# Altium schematic symbol library KAAI3020_TestBoard_R00.SCHLIB: 59 symbols
Pins are listed as number, name and electrical type; pins without a type are passive.

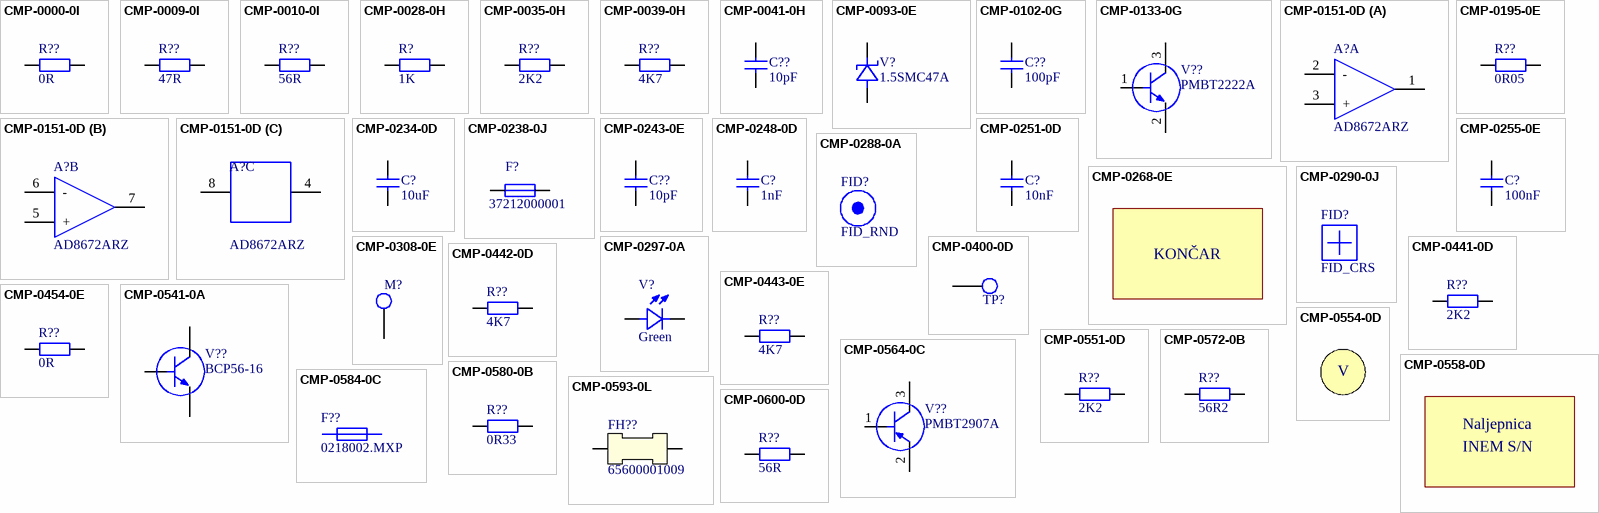
[diagram p0: symbols CMP-0000-0I to CMP-0600-0D]

## CMP-0000-0I
designator R??, comment value 0R  (hidden comment: RES_0R_0805_1%)
Resistor, Thick Film, 0R, 1%, 0.125W, TK100, Vishay; ManufacturerPartNumber: CRCW08050000Z; Manufacturer Part Number: CRCW08050000Z0EA; ValueNumeric: 0; Manufacturer: Vishay; Tolerance: 1%; DatasheetVersion: Revision: 04-Jun-12; HelpURL: \\srv-perun\Repos\Comp\090_COTS\Components\Datasheets\Resistors\Vishay\dcrcwe3.pdf; MountingType: SMD; PackageType: 0805; Height: 0.5mm; OperatingTemp: - 55C to +155C; Power: 0.125W; ROHS: Yes; PartStatus: Active
footprint RESC2112X05M (Resistor, 0805 (2012 metric), 2.05x1.25x0.5mm, Vishay)
pins: 1, 2

## CMP-0009-0I
designator R??, comment value 47R  (hidden comment: RES_47R_0805_1%)
Resistor, Thick Film, 47R, 1%, 0.125W, TK100, Vishay; ManufacturerPartNumber: CRCW080547R0FKEA; ValueNumeric: 47; MountingType: SMD; HelpURL: \\srv-perun\Repos\Comp\090_COTS\Components\Datasheets\Resistors\Vishay\dcrcwe3.pdf; Height: 0.5mm; PartStatus: Active; Power: 0.125W; OperatingTemp: - 55C to +155C; DatasheetVersion: Revision: 04-Jun-12; Tolerance: 1%; PackageType: 0805; ROHS: Yes; Manufacturer: Vishay; Manufacturer Part Number: CRCW080547R0FKEA
footprint RESC2112X05M (Resistor, 0805 (2012 metric), 2.05x1.25x0.5mm, Vishay)
pins: 1, 2

## CMP-0010-0I
designator R??, comment value 56R  (hidden comment: RES_56R_0805_1%)
Resistor, Thick Film, 56R, 1%, 0.125W, TK100, Vishay; ManufacturerPartNumber: CRCW080556R0FKEA; ValueNumeric: 56; PackageType: 0805; Height: 0.5mm; ROHS: Yes; Manufacturer: Vishay; Power: 0.125W; Tolerance: 1%; HelpURL: \\srv-perun\Repos\Comp\090_COTS\Components\Datasheets\Resistors\Vishay\dcrcwe3.pdf; MountingType: SMD; OperatingTemp: - 55C to +155C; DatasheetVersion: Revision: 04-Jun-12; PartStatus: Active; Manufacturer Part Number: CRCW080556R0FKEA
footprint RESC2112X05M (Resistor, 0805 (2012 metric), 2.05x1.25x0.5mm, Vishay)
pins: 1, 2

## CMP-0028-0H
designator R?, comment value 1K  (hidden comment: RES_1K_0805_1%)
Resistor, Thick Film, 1K, 1%, 0.125W, TK100, Vishay; ManufacturerPartNumber: CRCW08051K00FKEA; ValueNumeric: 1000; ROHS: Yes; Manufacturer: Vishay; PackageType: 0805; Tolerance: 1%; DatasheetVersion: Revision: 04-Jun-12; MountingType: SMD; Power: 0.125W; Height: 0.5mm; PartStatus: Active; HelpURL: \\srv-perun\Repos\Comp\090_COTS\Components\Datasheets\Resistors\Vishay\dcrcwe3.pdf; OperatingTemp: - 55C to +155C; Manufacturer Part Number: CRCW08051K00FKEA
footprint RESC2112X05M (Resistor, 0805 (2012 metric), 2.05x1.25x0.5mm, Vishay)
pins: 1, 2

## CMP-0035-0H
designator R??, comment value 2K2  (hidden comment: RES_2K2_0805_1%)
Resistor, Thick Film, 2K2, 1%, 0.125W, TK100, Vishay; ManufacturerPartNumber: CRCW08052K20FKEA; ValueNumeric: 2200; DatasheetVersion: Revision: 04-Jun-12; OperatingTemp: - 55C to +155C; Manufacturer: Vishay; ROHS: Yes; HelpURL: \\srv-perun\Repos\Comp\090_COTS\Components\Datasheets\Resistors\Vishay\dcrcwe3.pdf; PackageType: 0805; MountingType: SMD; PartStatus: Active; Power: 0.125W; Tolerance: 1%; Height: 0.5mm; Manufacturer Part Number: CRCW08052K20FKEA
footprint RESC2112X05M (Resistor, 0805 (2012 metric), 2.05x1.25x0.5mm, Vishay)
pins: 1, 2

## CMP-0039-0H
designator R??, comment value 4K7  (hidden comment: RES_4K7_0805_1%)
Resistor, Thick Film, 4K7, 1%, 0.125W, TK100, Vishay; ManufacturerPartNumber: CRCW08054K70FKEA; ValueNumeric: 4700; Tolerance: 1%; Power: 0.125W; Height: 0.5mm; MountingType: SMD; HelpURL: \\srv-perun\Repos\Comp\090_COTS\Components\Datasheets\Resistors\Vishay\dcrcwe3.pdf; Manufacturer: Vishay; DatasheetVersion: Revision: 04-Jun-12; OperatingTemp: - 55C to +155C; ROHS: Yes; PartStatus: Active; PackageType: 0805; Manufacturer Part Number: CRCW08054K70FKEA
footprint RESC2112X05M (Resistor, 0805 (2012 metric), 2.05x1.25x0.5mm, Vishay)
pins: 1, 2

## CMP-0041-0H
designator C??, comment value 10pF  (hidden comment: CAP_10pF_0805_5%)
Capacitor, Ceramic, Multilayer, C0G (NP0), 10pF, 5%, 50V, AVX; ManufacturerPartNumber: 08055A100JAT; ValueNumeric: 10; PartStatus: Active; PackageType: 0805; Manufacturer: AVX; OperatingTemp: -55°C to 125°C; ROHS: Yes; HelpURL: \\srv-perun\Repos\Comp\090_COTS\Components\Datasheets\Capacitors\AVX\C0GNP0-Dielectric.pdf; MountingType: SMD; Tolerance: 5%; Voltage: 50V; Manufacturer Part Number: 08055A100JAT; Component Type: Capacitor
footprint CAPC2012X09M (Capacitor, 0805 (2012 metric), 2.0x1.25x0.9mm, AVX)
pins: 1, 2

## CMP-0093-0E
designator V?, comment 1.5SMC47A
TVS Diode, Unidirectional, 1500W, 47V,  TransZorb® 1.5SMC Series; Manufacturer: Vishay; DatasheetVersion: Revision: 20-Dec-13; MountingType: SMD; Power: 1500W; Value: 1.5SMC47A; OperatingTemp: -65 to 150; PackageType: DO-214AB; ManufacturerPartNumber: 1.5SMC47A; HelpURL: \\srv-perun\Repos\Comp\090_COTS\Components\Datasheets\Semiconductors\Vishay\15smcseries.pdf; PartStatus: Active; ValueNumeric: 1.5SMC47A; Voltage: 47V; Manufacturer Part Number: 1.5SMC47A
footprint DIOM6959X26M (SMCJ, DO-214AB, Vishay)
pins: 1, 2

## CMP-0102-0G
designator C??, comment value 100pF  (hidden comment: CAP_100pF_0805_5%)
Capacitor, Ceramic, Multilayer, C0G (NP0), 100pF, 5%, 50V, AVX; ManufacturerPartNumber: 08055A101JAT; ValueNumeric: 100; PartStatus: Active; ROHS: Yes; MountingType: SMD; Manufacturer: AVX; HelpURL: \\srv-perun\Repos\Comp\090_COTS\Components\Datasheets\Capacitors\AVX\C0GNP0-Dielectric.pdf; PackageType: 0805; OperatingTemp: -55°C to 125°C; Voltage: 50V; Tolerance: 5%; Manufacturer Part Number: 08055A101JAT
footprint CAPC2012X09M (Capacitor, 0805 (2012 metric), 2.0x1.25x0.9mm, AVX)
pins: 1, 2

## CMP-0133-0G
designator V??, comment PMBT2222A
Transitor Bipolar, NPN, 40V, 0.6A, 250mW; Manufacturer: NXP; MTBF: 1.33x10E9; MountingType: SMD; HelpURL: \\srv-perun\Repos\Comp\090_COTS\Components\Datasheets\Semiconductors\NXP\PMBT2222_PMBT2222A.pdf; PackageType: SOT-23; PartStatus: Active; ManufacturerPartNumber: PMBT2222A; Voltage: 40V; DatasheetVersion: Rev. 6 - 12 November 2010; ValueNumeric: PMBT2222A; Value: PMBT2222A; ROHS: Yes; OperatingTemp: -65°C to +150°C; Power: 250mW; Manufacturer Part Number: PMBT2222A
footprint SOT95P230X110-3M (SOT23 NXP, TO-236AB)
pins: 1 B, 2 E, 3 C

## CMP-0151-0D
designator A?, comment AD8672ARZ
Operational Amplifier, Dual, Precision Low Noise, Low Input Bias Current, 10MHz, 4V/µs, ±5V to ±15V; Manufacturer: Analog Devices; OperatingTemp: -40 to 125; HelpURL: \\srv-perun\Repos\Comp\090_COTS\Components\Datasheets\Analog_integrated\Analog_Devices\AD8671_8672_8674.pdf; MountingType: SMD; ManufacturerPartNumber: AD8672ARZ; PackageType: SOIC-8; DatasheetVersion: Rev. F; PartStatus: Active; Value: AD8672ARZ; ValueNumeric: AD8672ARZ; Manufacturer Part Number: AD8672ARZ
footprint SOIC127P600X175-8M (SOIC-8, Texas Instruments)
part A pins: 1 Out1, 2 -, 3 +
part B pins: 5 +, 6 -, 7 Out2
part C pins: 4 (power), 8 (power)

## CMP-0195-0E
designator R??, comment value 0R05  (hidden comment: RES_0R05_2512_1%)
Resistor, Metal Strip, 0R05, 1%, 1W, TK75, Vishay; ManufacturerPartNumber: WSLT2512R0500FEA; ValueNumeric: 0.05; Voltage: 500V; PackageType: 2512 (6332 metric); Power: 1W; OperatingTemp: -65C to +275C; Tolerance: 1%; ROHS: Yes; Manufacturer: Vishay; PartStatus: Active; MountingType: SMD; HelpURL: \\srv-perun\Repos\Comp\090_COTS\Components\Datasheets\Resistors\Vishay\wslt2512.pdf; Height: 0.9mm; DatasheetVersion: Revision: 02-Oct-12
footprint RESC6432X09M (Resistor, WSLT2512 (6332 metric), 6.3x3.2x0.9mm, Vishay)
pins: 1, 2

## CMP-0234-0D
designator C?, comment value 10uF  (hidden comment: CAP_10uF_1210_10%)
Capacitor, Ceramic, Multilayer, X7R, 10uF, 50V, 10%, AVX; ManufacturerPartNumber: 12105C106KAT2A; ValueNumeric: 10000000; DatasheetVersion: REV 02; Height: 2.79mm; HelpURL: \\srv-perun\Repos\Comp\090_COTS\Components\Datasheets\Capacitors\AVX\X7RDielectric.pdf; Manufacturer: AVX; MountingType: SMD; OperatingTemp: -55ºC to +125ºC; PackageType: 1210; PartStatus: Active; ROHS: Yes; Tolerance: 10%; Voltage: 50V; Manufacturer Part Number: 12105C106KAT2A
footprint CAPC3225X28M (Capacitor, 1210 (3225 metric), 3.2x2.5x2.8mm, AVX)
pins: 1, 2

## CMP-0238-0J
designator F?, comment value 37212000001  (hidden comment: F_2A_250V)
Fuse, 2A, 250V, 0.6W, TR5 Time Lag, 372 series; Manufacturer: Littelfuse; DatasheetVersion: Revised: 01/06/16; Height: 8mm; HelpURL: \\srv-perun\Repos\Comp\090_COTS\Components\Datasheets\Resistors\Littelfuse\Littelfuse_Fuse_372_Datasheet.pdf; MountingType: THT; OperatingTemp: -40ºC to +85ºC; PartStatus: Active; Power: 0.6W; ROHS: Yes; ValueNumeric: 37212000001; Voltage: 250V; ManufacturerPartNumber: 37212000001; Manufacturer Part Number: 37212000001
footprint FUSE_3721200001 (Radial Lead Fuse, 372 series, Littelfuse)
pins: 1, 2

## CMP-0243-0E
designator C??, comment value 10pF  (hidden comment: CAP_10pF_0603_5%)
Capacitor, Ceramic, Multilayer, C0G (N0P), 10pF, 5%, 50V, COG (NPO), Kemet; ManufacturerPartNumber: C0603C100J5GACTU; ValueNumeric: 10; Manufacturer: Kemet; PackageType: 1608 metric (0603 EIA); DatasheetVersion: 3/30/2016; Tolerance: 5%; OperatingTemp: -55°C to 125°C; MountingType: SMD; HelpURL: \\srv-perun\Repos\Comp\090_COTS\Components\Datasheets\Capacitors\Kemet\KEM_C1003_C0G_SMD.pdf; Voltage: 50V; ROHS: Yes; PartStatus: Active; Manufacturer Part Number: C0603C100J5GACTU
footprint CAPC1608X09M (Capacitor, 0603 (1608 metric), 1.6x0.8x0.9mm, Kemet)
pins: 1, 2

## CMP-0248-0D
designator C?, comment value 1nF  (hidden comment: CAP_1nF_0603_10%)
Capacitor, Ceramic, Multilayer, X7R, 1nF, 10%, 50V, Kemet; ManufacturerPartNumber: C0603C102K5RACTU; ValueNumeric: 1000; MountingType: SMD; ROHS: Yes; Tolerance: 10%; Voltage: 50V; HelpURL: \\srv-perun\Repos\Comp\090_COTS\Components\Datasheets\Capacitors\Kemet\KEM_C1002_X7R_SMD.pdf; PackageType: 1608 metric (0603 EIA); PartStatus: Active; OperatingTemp: -55°C to 125°C; Manufacturer: Kemet; DatasheetVersion: 2/29/2016; Manufacturer Part Number: C0603C102K5RACTU
footprint CAPC1608X09M (Capacitor, 0603 (1608 metric), 1.6x0.8x0.9mm, Kemet)
pins: 1, 2

## CMP-0251-0D
designator C?, comment value 10nF  (hidden comment: CAP_10nF_0603_10%)
Capacitor, Ceramic, Multilayer, X7R, 10nF, 10%, 50V, Kemet; ManufacturerPartNumber: C0603C103K5RACTU; ValueNumeric: 10000; HelpURL: \\srv-perun\Repos\Comp\090_COTS\Components\Datasheets\Capacitors\Kemet\KEM_C1002_X7R_SMD.pdf; MountingType: SMD; OperatingTemp: -55°C to 125°C; Tolerance: 10%; PackageType: 1608 metric (0603 EIA); ROHS: Yes; DatasheetVersion: 2/29/2016; Voltage: 50V; Manufacturer: Kemet; PartStatus: Active; Manufacturer Part Number: C0603C103K5RACTU
footprint CAPC1608X09M (Capacitor, 0603 (1608 metric), 1.6x0.8x0.9mm, Kemet)
pins: 1, 2

## CMP-0255-0E
designator C?, comment value 100nF  (hidden comment: CAP_100nF_0603_10%)
Capacitor, Ceramic, Multilayer, X7R, 100nF, 10%, 50V, Yageo; ManufacturerPartNumber: CC0603KRX7R9BB104; ValueNumeric: 100000; DatasheetVersion: December 30, 2015 V.13; Manufacturer: Yageo; MountingType: SMD; OperatingTemp: -55°C to 125°C; PackageType: 1608 metric (0603 EIA); PartStatus: Active; ROHS: Yes; Tolerance: 10%; Voltage: 50V; HelpURL: \\srv-perun\Repos\Comp\090_COTS\Components\Datasheets\Capacitors\Yageo\UPY-GPHC_X7R_6.3V-to-50V_13.pdf; Manufacturer Part Number: CC0603KRX7R9BB104; Component Type: Capacitor
footprint CAPC1608X09M (Capacitor, 0603 (1608 metric), 1.6x0.8x0.9mm, Yageo)
pins: 1, 2

## CMP-0268-0E
designator Logo?, comment KONČAR  (value not drawn)  (no BOM)
PCB logo; OperatingTemp: Active; PartStatus: Active; Value: logo; ValueNumeric: KONČAR; Manufacturer: KONČAR; ManufacturerPartNumber: KONČAR; Component Type: Mechanical Parts
footprint KONČAR (PCB logo)

## CMP-0288-0A
designator FID?, comment FID_RND  (no BOM)
Fiducial, Round, D=4mm (inner D=1mm); Manufacturer: KONČAR; ManufacturerPartNumber: FID_RND; MountingType: SMD; PartStatus: Active; Value: FID_RND; ValueNumeric: FID_RND; Component Type: Mechanical Parts
footprint FID_RND (Fiducial, Round, D=4mm (inner D=1mm))

## CMP-0290-0J
designator FID?, comment FID_CRS  (no BOM)
Fiducial, Cross, W=4mm, H=4mm; Manufacturer: KONČAR; ManufacturerPartNumber: FID_CRS; MountingType: SMD; PartStatus: Active; ValueNumeric: FID_CRS; Component Type: Mechanical Parts; Value: FID_CRS
footprint FID_CRS (Fiducial, Cross, W=4mm, H=4mm)

## CMP-0297-0A
designator V?, comment value Green  (hidden comment: LED_0805_Green)
LED, green, 20mA, 570nm; Manufacturer: Kingbright; ManufacturerPartNumber: KP-2012MGC; DatasheetVersion: REV NO: V.16; HelpURL: \\srv-perun\Repos\Comp\090_COTS\Components\Datasheets\Optoelectronic\Kingbright\1684561.pdf; MountingType: SMD; OperatingTemp: -40 to 85; PackageType: 2012 (0805 EIA); PartStatus: Active; ValueNumeric: Green; Manufacturer Part Number: KP-2012MGC
footprint LEDC2013X11M-green (LED, green,  2012 metric (0805 EIA))
pins: 1, 2

## CMP-0308-0E
designator M?, comment 101506.28 BZ  (value not drawn)
Solder lug for PCB, Closed, 2.8x7.5x0.6mm; Manufacturer: Vogt Ag; ROHS: Yes; Value: 2.8x7.5x0.6mm; ValueNumeric: 2.8x7.5x0.6mm; Height: 4mm; HelpURL: http://goo.gl/hPcdM9; ManufacturerPartNumber: 101506.28 BZ; MountingType: THT; PartStatus: Active; Manufacturer: Vogt AG; Manufacturer Part Number: 101506.28 BZ; Component Type: Mechanical Parts
footprint TPCW320D140H190P (Test Point Pad, Round, 3.2x1.9mm, Hole Diameter 1.4mm)
pins: 1

## CMP-0400-0D
designator TP?, comment TP1  (value not drawn)  (no BOM)
Test pad, round, 1mm; Manufacturer: Končar; ManufacturerPartNumber: Test_pad_1mm; MountingType: SMD; PartStatus: Active; Value: TP1; ValueNumeric: TP1; ClassName: CH1
footprint Test pad 1mm
pins: 1

## CMP-0441-0D
designator R??, comment value 2K2  (hidden comment: RES_2K2_2512_1%)
Resistor, Thick Film, 2K2, 1%, 1W, TK100, Vishay; ManufacturerPartNumber: CRCW25122K20FKEG; Voltage: 500V; ValueNumeric: 2200; MountingType: SMD; Power: 1W; Manufacturer: Vishay; OperatingTemp: -55C to +155C; Height: 0.7mm; Tolerance: 1%; PartStatus: Active; HelpURL: \\srv-perun\Repos\Comp\090_COTS\Components\Datasheets\Resistors\Vishay\dcrcwe3.pdf; PackageType: 2512 (6332 metric); DatasheetVersion: Revision: 04-Jun-12; ROHS: Yes; Manufacturer Part Number: CRCW25122K20FKEG
footprint RESC6331X07M (Resistor, 2512 (6332 metric), 6.3x3.2x0.7mm, Vishay)
pins: 1, 2

## CMP-0442-0D
designator R??, comment value 4K7  (hidden comment: RES_4K7_2512_1%)
Resistor, Thick Film, 4K7, 1%, 1W, TK100, Vishay; ManufacturerPartNumber: CRCW25124K70FKEG; Voltage: 500V; ValueNumeric: 4700; Power: 1W; HelpURL: \\srv-perun\Repos\Comp\090_COTS\Components\Datasheets\Resistors\Vishay\dcrcwe3.pdf; DatasheetVersion: Revision: 04-Jun-12; Tolerance: 1%; MountingType: SMD; Height: 0.7mm; Manufacturer: Vishay; ROHS: Yes; PackageType: 2512 (6332 metric); PartStatus: Active; OperatingTemp: -55C to +155C; Manufacturer Part Number: CRCW25124K70FKEG
footprint RESC6331X07M (Resistor, 2512 (6332 metric), 6.3x3.2x0.7mm, Vishay)
pins: 1, 2

## CMP-0443-0E
designator R??, comment value 4K7  (hidden comment: RES_4K7_1206_1%)
Resistor, Thick Film, 4K7, 1%, 0.25W, TK100, Vishay; ManufacturerPartNumber: CRCW12064K70FK; Voltage: 200V; OperatingTemp: -55C to +155C; Height: 0.6mm; PartStatus: Active; MountingType: SMD; HelpURL: \\srv-perun\Repos\Comp\090_COTS\Components\Datasheets\Resistors\Vishay\dcrcwe3.pdf; DatasheetVersion: Revision: 04-Jun-12; Tolerance: 1%; Power: 0.25W; ROHS: Yes; ValueNumeric: 4K7; Manufacturer: Vishay; PackageType: 1206 (3216 metric); Manufacturer Part Number: CRCW12064K70FK
footprint RESC3116X06M (Resistor, 1206 (3216 metric), 3.2x1.6x0.6mm, Vishay)
pins: 1, 2

## CMP-0454-0E
designator R??, comment value 0R  (hidden comment: RES_0R_2512_1%)
Resistor, Thick Film, 0R, 1%, 1W, TK100, Vishay; ManufacturerPartNumber: CRCW25120000Z0EG; Voltage: 500V; ValueNumeric: 0; Tolerance: 1%; ROHS: Yes; HelpURL: \\srv-perun\Repos\Comp\090_COTS\Components\Datasheets\Resistors\Vishay\dcrcwe3.pdf; Height: 0.7mm; DatasheetVersion: Revision: 04-Jun-12; PartStatus: Active; MountingType: SMD; Manufacturer: Vishay; OperatingTemp: -55C to +155C; Power: 1W; PackageType: 2512 (6332 metric); Manufacturer Part Number: CRCW25120000Z0EG
footprint RESC6331X07M (Resistor, 2512 (6332 metric), 6.3x3.2x0.7mm, Vishay)
pins: 1, 2

## CMP-0541-0A
designator V??, comment BCP56-16
Transistor, Bipolar, NPN, 80V, 1A; Manufacturer: Nexperia; Manufacturer: NXP; MTBFstandard: 1.41x10E9; PartStatus: Active; DatasheetVersion: Rev. 9 — 25 October 2011; ManufacturerPartNumber: BCP56-16; ValueNumeric: BCP56-16; PackageType: SOT223; HelpURL: \\srv-perun\Repos\Comp\090_COTS\Components\Datasheets\Semiconductors\NXP\BCP56_BCX56_BC56PA.pdf; OperatingTemp: -55 to 150; Value: BCP56-16; MountingType: SMD; Manufacturer Part Number: BCP56-16
footprint SOT230P700X180-4M (SOT223 (SC-73), NXP)
pins: 1 B, 2 C, 3 E, 4 C

## CMP-0551-0D
designator R??, comment value 2K2  (hidden comment: RES_2K2_1206_1%)
Resistor, Thick Film, 2K2, 1%, 0.25W, TK100, metal-film resistor; ManufacturerPartNumber: CRCW12062K20FK; Manufacturer: Vishay; Voltage: 200V; ValueNumeric: 2200; ROHS: Yes; Tolerance: 1%; Power: 0.25W; PartStatus: Active; HelpURL: \\srv-perun\Repos\Comp\090_COTS\Components\Datasheets\Resistors\Vishay\dcrcwe3.pdf; PackageType: 1206 (3216 metric); Height: 0.6mm; OperatingTemp: -55C to +155C; DatasheetVersion: Revision: 04-Jun-12; MountingType: SMD; Manufacturer Part Number: CRCW12062K20FK
footprint RESC3116X06M (Resistor, 1206 (3216 metric), 3.2x1.6x0.6mm, Vishay)
pins: 1, 2

## CMP-0554-0D
designator MP?, comment Znak_vizualna_kontrola_INEM  (value not drawn)  (no BOM)
Znak, Vizualna kontrola, INEM; ManufacturerPartNumber: Znak_krug; Manufacturer: KONCAR INEM; ValueNumeric: Krug; Value: Krug; PartStatus: Active; Component Type: Mechanical Parts
footprint Znak_INEM_vizualna_kontrola (Znak, Vizualna kontrola, INEM)
text: V

## CMP-0558-0D
designator Nalj?, comment Naljepnica_TestingNo_INEM  (value not drawn)  (no BOM)
Naljepnica, serijski broj testiranje, INEM, 25x8mm; Manufacturer: KONCAR INEM; ManufacturerPartNumber: NaljepnicaTestingNo; ValueNumeric: 25x8mm; Value: 25x8mm; PartStatus: Active; Component Type: Mechanical Parts
footprint Naljepnica_INEM_TestingNo (PCB naljepnica, Testing Number, INEM 25x8mm)
text: Naljepnica; INEM S/N

## CMP-0564-0C
designator V??, comment PMBT2907A
Transitor Bipolar, PNP, 60V, 0.6A, 250mW; Manufacturer: NXP; MTBF: 1.33x10E9; ValueNumeric: PMBT2907A; OperatingTemp: -65°C to +150°C; ManufacturerPartNumber: PMBT2907A; PackageType: SOT-23; PartStatus: Active; Value: PMBT2907A; ROHS: Yes; Power: 250mW; HelpURL: \\srv-perun\Repos\Comp\090_COTS\Components\Datasheets\Semiconductors\NXP\PMBT2907A.pdf; DatasheetVersion: 6 March 2015; MountingType: SMD; Height: 1.1mm; Voltage: 60V; Manufacturer Part Number: PMBT2907A
footprint SOT95P230X110-3M (SOT23 NXP, TO-236AB)
pins: 1 B, 2 E, 3 C

## CMP-0572-0B
designator R??, comment value 56R2  (hidden comment: RES_56R2_2512_1%)
Resistor, Thick Film, 56R2, 1%, 1W, TK100, Vishay; ManufacturerPartNumber: CRCW251256R2FKEG; Voltage: 500V; ValueNumeric: 56.2; Power: 1W; MountingType: SMD; Height: 0.7mm; DatasheetVersion: Revision: 04-Jun-12; OperatingTemp: - 55°C to +155°C; HelpURL: \\srv-perun\Repos\Comp\090_COTS\Components\Datasheets\Resistors\Vishay\dcrcwe3.pdf; Tolerance: 1%; Manufacturer: Vishay; PartStatus: Active; PackageType: 2512
footprint RESC6331X07M (Resistor, 2512 (6332 metric), 6.3x3.2x0.7mm, Vishay)
pins: 1, 2

## CMP-0580-0B
designator R??, comment value 0R33  (hidden comment: RES_0R33_5W_5%)
Resistor, 0R33, TK90, 5W, 5%, Axial, CW005 Series; ManufacturerPartNumber: CW005R3300JB12; Manufacturer: Vishay; ValueNumeric: 0.33; ROHS: Yes; PartStatus: Active; Power: 5W; Tolerance: ±5%; DatasheetVersion: Revision: 20-Oct-16; HelpURL: \\SRV-PERUN\Repos\Comp\090_COTS\Components\Datasheets\Resistors\Vishay\cw.pdf; OperatingTemp: -65°C to +250°C; Height: 8.8mm; MountingType: THT
footprint RESD3300W110L2540D880 (Resistor, Axial, 5W, Pitch 33mm, Body 25.4x8.8mm, THT)
pins: 1, 2

## CMP-0584-0C
designator F??, comment value 0218002.MXP  (hidden comment: Littelfuse_0218002.MXP)  (mechanical)
Fuse - Cartridge, 2A, Time-lag, 5x20mm , Glass Body, 218 Series; Voltage: 250V; ROHS: Yes; ManufacturerPartNumber: 0218002.MXP; HelpURL: \\SRV-PERUN\Repos\Comp\090_COTS\Components\Datasheets\Resistors\Littelfuse\Littelfuse_Fuse_218_Datasheet.pdf; Height: 8mm; MountingType: THT; ValueNumeric: 0218002.MXP; Manufacturer: Littelfuse; OperatingTemp: –55ºC to +125ºC; DatasheetVersion: Revised: 06/06/16; PartStatus: Active; Manufacturer Part Number: 0218002.MXP
footprint Littelfuse_04450001H (Fuse Clips, 5x20mm, For 5mm Diameter Fuses)

## CMP-0593-0L
designator FH??, comment 65600001009
Fuse Holder, For 5x20mm Fuses, 656 Series, Littelfuse; Voltage: 250V; Power: 4W/2.5W (w_o/w cover); Height: 12.7mm; Manufacturer: Littelfuse; ManufacturerPartNumber: 65600001009; PackageType: THT; HelpURL: \\SRV-PERUN\Repos\Comp\090_COTS\Components\Datasheets\Mechanical\Littelfuse\Littelfuse_Fuse_Block_656_Datasheet.pdf; OperatingTemp: -40ºC to +85ºC; DatasheetVersion: Revised: 06/03/15; MountingType: THT; ROHS: Yes; PartStatus: Active; Value: 65600001009; ValueNumeric: 65600001009; Manufacturer Part Number: 6560000100
footprint 65600001009 (Fuse Block, PC Mount, For 5x20mm Fuses, 656 Series, Littelfuse)
pins: 1, 2

## CMP-0600-0D
designator R??, comment value 56R  (hidden comment: RES_56R_2512_1%)
Resistor, Thick Film, 56R, 1%, 1W, TK100, Vishay; ManufacturerPartNumber: CRCW251256R0FKEG; ValueNumeric: 56; Voltage: 500V; Power: 1W; HelpURL: \\srv-perun\Repos\Comp\090_COTS\Components\Datasheets\Resistors\Vishay\dcrcwe3.pdf; OperatingTemp: -55C to +155C; Tolerance: 1%; PartStatus: Active; DatasheetVersion: Revision: 04-Jun-12; Height: 0.7mm; ROHS: Yes; MountingType: SMD; Manufacturer: Vishay; PackageType: 2512 (6332 metric); Manufacturer Part Number: CRCW251256R0FKEG
footprint RESC6331X07M (Resistor, 2512 (6332 metric), 6.3x3.2x0.7mm, Vishay)
pins: 1, 2

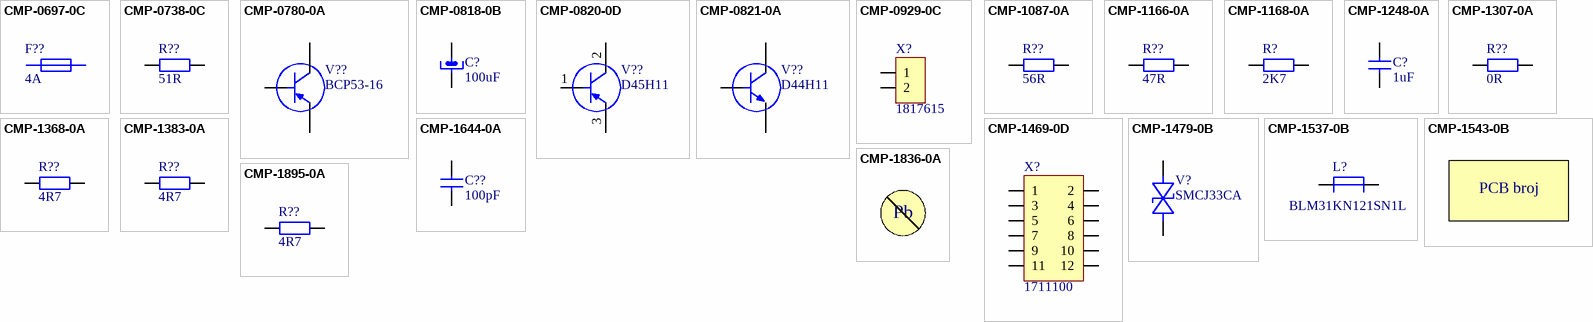
[diagram p1: symbols CMP-0697-0C to CMP-1895-0A]

## CMP-0697-0C
designator F??, comment value 4A  (hidden comment: Littelfuse_0218004.MXP)  (mechanical)
Fuse - Cartridge, 4 A, Time-lag, 5x20mm , Glass Body, 218 Series; ValueNumeric: 4; Voltage: 250V; Height: 8mm; OperatingTemp: –55ºC to +125ºC; Manufacturer: Littelfuse; MountingType: THT; ManufacturerPartNumber: 0218 004.MXP; HelpURL: \\SRV-PERUN\Repos\Comp\090_COTS\Components\Datasheets\Resistors\Littelfuse\Littelfuse_Fuse_218_Datasheet.pdf-310015.pdf; PartStatus: Active; DatasheetVersion: Revised: 06/06/16; ROHS: Yes; Manufacturer Part Number: 0218004.MXP
footprint Littelfuse_04450001H (Fuse Clips, 5x20mm, For 5mm Diameter Fuses)

## CMP-0738-0C
designator R??, comment value 51R  (hidden comment: R_51R_2512_1%)
Resistor, Thick Film, 51R, 1%, 1W, TK100, Panasonic; ManufacturerPartNumber: ERJ-U1TF51R0; ValueNumeric: 51; Voltage: 200V; OperatingTemp: -55C to +155C; Tolerance: 1%; ROHS: Yes; HelpURL: \\srv-perun\Repos\Comp\090_COTS\Components\Datasheets\Resistors\Panasonic\AOA0000C334.pdf; PartStatus: Active; Height: 0.7mm; PackageType: 2512 (6332 metric); DatasheetVersion: Nov. 2017; Power: 1W; Manufacturer: Panasonic; MountingType: SMD
footprint RESC6432X07M (Chip Resistor, 2-Leads, Body 6,40x3,20mm, IPC Low Density, Panasonic ERJ-U1T)
pins: 1, 2

## CMP-0780-0A
designator V??, comment BCP53-16
Transistor, Bipolar, PNP, Low Power, 80V, 1A, Infineon; Manufacturer: NXP; Power: 2W; Height: 1.8mm; MountingType: SMD; OperatingTemp: up to +150°C; PackageType: SOT-223; Value: BCP53-16; PartStatus: Active; Manufacturer: Infineon; DatasheetVersion: 2011-10-13; Voltage: 80V; ManufacturerPartNumber: BCP53-16; ROHS: Yes; ValueNumeric: BCP53-16; HelpURL: \\srv-perun\Repos\Comp\090_COTS\Components\Datasheets\Semiconductors\Infineon\Infineon-BCP51_BCP52_BCP53-DS-v01_01-en.pdf; Manufacturer Part Number: BCP53-16
footprint SOT230P700X170-4M (SOT223, 4-Leads, Body 6.50x7.0mm, Infineon)
pins: 1 B, 2 C, 3 E, 4 C

## CMP-0818-0B
designator C?, comment value 100uF  (hidden comment: ELC_100uF_50V_20%)
Capacitor, Electrolytic, Aluminum, 100uF, 20%, 50V, Low ESR, Long-Life 10000h@105C, Vishay; ManufacturerPartNumber: MAL213661101E3; ValueNumeric: 100000000; Manufacturer: Vishay; HelpURL: \\srv-perun\Repos\Comp\090_COTS\Components\Datasheets\Capacitors\Vishay\136rvi-101620.pdf; MountingType: THT; DatasheetVersion: 16-Sep-16; Tolerance: 20%; Height: 12mm; ROHS: Yes; PartStatus: Active; PackageType: Radial 10x12mm; OperatingTemp: -55°C to +105℃; Voltage: 50V; Manufacturer Part Number: MAL213661101E3
footprint CAPPRD500W60D1000H1200A (Capacitor, Polarized, Radial, Lead Spacing 5mm, Body 10x12mm, Vishay)
pins: 1, 2

## CMP-0820-0D
designator V??, comment D45H11
Transistor, Bipolar, PNP, Power, -80V, 10A, 50W, ST; Manufacturer: ST Microelectronics; ManufacturerPartNumber: D45H11; MountingType: THT; PackageType: TO-220A; OperatingTemp: -65C to +150C; ROHS: Yes; DatasheetVersion: Doc ID 4213 Rev 5; PartStatus: Active; HelpURL: \\srv-perun\Repos\Comp\090_COTS\Components\Datasheets\Semiconductors\ST\en.CD00000942.pdf; ValueNumeric: D45H11; Height: 19mm; Voltage: -80V; Value: D45H11; Power: 50W; Manufacturer Part Number: D45H11
footprint TO-220A (TO-220A, ST Microelectronics)
pins: 1 B, 2 C, 3 E

## CMP-0821-0A
designator V??, comment D44H11
Transitor Bipolar, NPN, Power, 80V, 10A, 50W; Manufacturer: ST Microelectronics; ROHS: Yes; Height: 19mm; PackageType: TO-220A; DatasheetVersion: Doc ID 4213 Rev 5; MountingType: THT; PartStatus: Active; ManufacturerPartNumber: D44H11; Voltage: 80V; OperatingTemp: -65°C to +150°C; HelpURL: \\srv-perun\Repos\Comp\090_COTS\Components\Datasheets\Semiconductors\ST\en.CD00000942.pdf; ValueNumeric: D44H11; Power: 50W; Value: D44H11; Manufacturer Part Number: D44H11
footprint TO-220A (TO-220A, ST Microelectronics)
pins: 1 B, 2 C, 3 E

## CMP-0929-0C
designator X?, comment 1817615
Connector, Header, 2 Pin, Right Angle, Pitch 3.5mm, 8A, 160V, MC 1,5/2-GF-3,5-LR; Manufacturer: Phoenix Contact; ManufacturerPartNumber: 1817615; DatasheetVersion: 10/11/2018; Value: 1817615; MountingType: THT; ValueNumeric: 1817615; PackageType: THT; Voltage: 160V; PartStatus: Active; Height: 7.25mm; OperatingTemp: -40C to +105C; HelpURL: \\SRV-PERUN\Repos\Comp\090_COTS\Components\Datasheets\Connectors\Phoenix Contact\1817615.pdf; Manufacturer Part Number: 1817615
footprint PhoenixContact_1817615 (Header, 2 Pin, Right Angle, Pitch 3.5mm, MC 1,5/2-GF-3,5-LR)
pins: 1, 2

## CMP-1087-0A
designator R??, comment value 56R  (hidden comment: RES_56R_1206_1%)
Resistor, Thick Film, 56R, 1%, 0.25W, TK100, Vishay; ManufacturerPartNumber: CRCW120656R0FKEA; Manufacturer Part Number: CRCW120656R0FK; ValueNumeric: 56; Voltage: 200V; PartStatus: Active; DatasheetVersion: Revision: 04-Jun-12; MountingType: SMD; OperatingTemp: -55C to +155C; Height: 0.6mm; Power: 0.25W; Manufacturer: Vishay; ROHS: Yes; PackageType: 1206 (3216 metric); HelpURL: \\srv-perun\Repos\Comp\090_COTS\Components\Datasheets\Resistors\Vishay\dcrcwe3.pdf; Tolerance: 1%
footprint RESC3116X06M (Resistor, 1206 (3216 metric), 3.2x1.6x0.6mm, Vishay)
pins: 1, 2

## CMP-1166-0A
designator R??, comment value 47R  (hidden comment: RES_47R_1206_1%)
Resistor, Thick Film, 47R, 1%, 0.25W, TK100, Vishay; ManufacturerPartNumber: CRCW120647R0FKEA; ValueNumeric: 47; Voltage: 200V; PartStatus: Active; Height: 0.6mm; Manufacturer: Vishay; Power: 0.25W; DatasheetVersion: Revision: 04-Jun-12; HelpURL: \\srv-perun\Repos\Comp\090_COTS\Components\Datasheets\Resistors\Vishay\dcrcwe3.pdf; ROHS: Yes; OperatingTemp: -55C to +155C; Tolerance: 1%; MountingType: SMD; PackageType: 1206 (3216 metric); Manufacturer Part Number: CRCW120647R0FKEA
footprint RESC3116X06M (Resistor, 1206 (3216 metric), 3.2x1.6x0.6mm, Vishay)
pins: 1, 2

## CMP-1168-0A
designator R?, comment value 2K7  (hidden comment: RES_2K7_1206_1%)
Resistor, Thick Film, 2K7, 1%, 0.25W, TK100, Vishay; ManufacturerPartNumber: CRCW12062K70FKEA; Manufacturer Part Number: CRCW12062K70FK; ValueNumeric: 2700; Voltage: 200V; PackageType: 1206 (3216 metric); Tolerance: 1%; DatasheetVersion: Revision: 04-Jun-12; PartStatus: Active; MountingType: SMD; Power: 0.25W; Height: 0.6mm; OperatingTemp: -55C to +155C; Manufacturer: Vishay; ROHS: Yes; HelpURL: \\srv-perun\Repos\Comp\090_COTS\Components\Datasheets\Resistors\Vishay\dcrcwe3.pdf
footprint RESC3116X06M (Resistor, 1206 (3216 metric), 3.2x1.6x0.6mm, Vishay)
pins: 1, 2

## CMP-1248-0A
designator C?, comment value 1uF  (hidden comment: CAP_1uF_0805_10%)
Capacitor, Ceramic, Multilayer, X7R, 1uF, 10%, 50V, Yageo; ManufacturerPartNumber: CC0805KKX7R9BB105; ValueNumeric: 1000000; HelpURL: \\SRV-PERUN\Repos\Comp\090_COTS\Components\Datasheets\Capacitors\Yageo\UPY-GPHC_X7R_6.3V-to-50V_13.pdf; PartStatus: Active; Voltage: 50V; ROHS: Yes; PackageType: 0805 (2012 metric); Height: 1.25mm; Manufacturer: Yageo; OperatingTemp: -55C to +125C; MountingType: SMD; DatasheetVersion: December 30, 2015 V.13; Tolerance: 10%; Manufacturer Part Number: CC0805KKX7R9BB105
footprint CAPC2012X09M (Capacitor, 0805 (2012 metric), 2.0x1.25x0.9mm, AVX)
pins: 1, 2

## CMP-1307-0A
designator R??, comment value 0R  (hidden comment: RES_0R_1206_1%)
Resistor, Thick Film, 0R, 1%, 0.25W, Vishay; ManufacturerPartNumber: CRCW12060000Z0EA; ValueNumeric: 0; Voltage: 200V; Height: 0.6mm; Tolerance: 1%; DatasheetVersion: Revision: 04-Jun-12; Manufacturer: Vishay; ROHS: Yes; Power: 0.25W; HelpURL: \\srv-perun\Repos\Comp\090_COTS\Components\Datasheets\Resistors\Vishay\dcrcwe3.pdf; OperatingTemp: -55C to +155C; PackageType: 1206 (3216 metric); MountingType: SMD; PartStatus: Active; Manufacturer Part Number: CRCW12060000Z0EA
footprint RESC3116X06M (Resistor, 1206 (3216 metric), 3.2x1.6x0.6mm, Vishay)
pins: 1, 2

## CMP-1368-0A
designator R??, comment value 4R7  (hidden comment: RES_4R7_1206_1%)
Resistor, Thick Film, 4R7, 1%, 0.25W, TK100, Vishay; ManufacturerPartNumber: CRCW12064R70FKEA; Voltage: 200V; ValueNumeric: 4.7; Height: 0.6mm; Manufacturer: Vishay; MountingType: SMD; DatasheetVersion: Revision: 04-Jun-12; Tolerance: 1%; ROHS: Yes; PartStatus: Active; PackageType: 1206 (3216 metric); OperatingTemp: -55C to +155C; HelpURL: \\srv-perun\Repos\Comp\090_COTS\Components\Datasheets\Resistors\Vishay\dcrcwe3.pdf; Power: 0.25W; Manufacturer Part Number: CRCW12064R70FKEA
footprint RESC3116X06M (Resistor, 1206 (3216 metric), 3.2x1.6x0.6mm, Vishay)
pins: 1, 2

## CMP-1383-0A
designator R??, comment value 4R7  (hidden comment: RES_4R7_0805_1%)
Resistor, Thick Film, 4R7, 1%, 0.125W, TK100, Vishay; ManufacturerPartNumber: CRCW08054R70FKEA; ValueNumeric: 4.7; OperatingTemp: - 55C to +155C; DatasheetVersion: Revision: 04-Jun-12; PartStatus: Active; Height: 0.5mm; Manufacturer: Vishay; Power: 0.125W; MountingType: SMD; Tolerance: 1%; PackageType: 0805 (2012 metric); HelpURL: \\srv-perun\Repos\Comp\090_COTS\Components\Datasheets\Resistors\Vishay\dcrcwe3.pdf; ROHS: Yes; Manufacturer Part Number: CRCW08054R70FKEA
footprint RESC2112X05M (Resistor, 0805 (2012 metric), 2.05x1.25x0.5mm, Vishay)
pins: 1, 2

## CMP-1469-0D
designator X?, comment value 1711100  (hidden comment: PhoenixContact_1711100)
Connector, Header, 2x6, Right Angle, Pitch 3.5mm, 8A, 160V, DMC 1,5/6-G1F-3,5-LR P26THR, Phoenix Contact; ValueNumeric: 1711100; Height: 10.8mm; HelpURL: \\srv-perun\Repos\Comp\090_COTS\Components\Datasheets\Connectors\Phoenix Contact\1711100.pdf; Voltage: 160V; OperatingTemp: -55C to +85C; DatasheetVersion: 03/24/2021; Manufacturer: Phoenix Contact; PartStatus: Active; ManufacturerPartNumber: 1711100; ROHS: Yes; MountingType: THT; Manufacturer Part Number: 1711100; Component Type: Connectors
footprint PhoenixContact_1711100 (Connector, Header, 2x6, Right Angle, Pitch 3.5mm, DMC 1,5/6-G1F-3,5-LR P26THR, Phoenix Contact)
pins: 1, 2, 3, 4, 5, 6, 7, 8, 9, 10, 11, 12

## CMP-1479-0B
designator V?, comment SMCJ33CA
Diode, TVS , Bidirectional, 1500W, 33V, Littelfuse; Manufacturer: Littelfuse; PartStatus: Active; HelpURL: \\srv-perun\Repos\Comp\090_COTS\Components\Datasheets\Semiconductors\Littelfuse\Littelfuse_TVS_Diode_SMCJ_Datasheet.pdf; Power: 1500W; Voltage: 33V; Height: 2.62mm; MountingType: SMD; PackageType: DO-214AB; OperatingTemp: -65C to +150C; ValueNumeric: SMCJ33CA; ROHS: Yes; DatasheetVersion: Revised: BA.08/31/20; Value: SMCJ33CA; ManufacturerPartNumber: SMCJ33CA; Manufacturer Part Number: SMCJ33CA; Component Type: Semiconductors
footprint DIOM6959X26N (Diode, DO-214AB (SMCJ), Body 6.9x5.9x2.6mm, Littelfuse)
pins: 1, 2

## CMP-1537-0B
designator L?, comment BLM31KN121SN1L
Ferrite Bead, EMI Suppression Filter, 6A, Murata; Tolerance: 25%; BrDijela: E41906; Value: BLM31KN121SN1L; ManufacturerPartNumber: BLM31KN121SN1L; HelpURL: \\srv-perun\Repos\Comp\090_COTS\Components\Datasheets\Inductors_and_Transformers\Murata\BLM31KN121SN1#.pdf; PackageType: 1206 (3216 matric); DatasheetVersion: 03/19/2021; PartStatus: Active; ValueNumeric: BLM31KN121SN1L; MountingType: SMD; Height: 1.8mm; OperatingTemp: -55C to +125C; ROHS: Yes; Manufacturer: Murata; Manufacturer Part Number: BLM31KN121SN1L; Component Type: Inductors And Transformers
footprint INDC3216X18N (Ferrite, Bead, 1206 (3216 metric), Murata)
pins: 1, 2

## CMP-1543-0B
designator Logo?, comment PCB_broj  (value not drawn)  (no BOM)
PCB broj; ManufacturerPartNumber: .K_PcbNum; Manufacturer: KONČAR; OperatingTemp: Active; Value: PCB broj; PartStatus: Active; ValueNumeric: KONČAR; Component Type: Mechanical Parts
footprint PCB_broj (PCB broj)

## CMP-1644-0A
designator C??, comment value 100pF  (hidden comment: CAP_100pF_0603_5%)
Capacitor, Ceramic, Multilayer, C0G (N0P), 100pF, 5%, 100V, Kemet; ManufacturerPartNumber: C0603C101J1GAC7411; Tolerance: 10%; ValueNumeric: 100; OperatingTemp: -55C to +125C; PartStatus: Active; Voltage: 100V; PackageType: 0603 (1608 metric); MountingType: SMD; DatasheetVersion: 3/30/2016; Manufacturer: Kemet; Height: 0.9mm; HelpURL: \\srv-perun\Repos\Comp\090_COTS\Components\Datasheets\Capacitors\Kemet\KEM_C1003_C0G_SMD.pdf; ROHS: Yes; Component Type: Capacitor
footprint CAPC1608X09M (Capacitor, 0603 (1608 metric), 1.6x0.8x0.9mm, Kemet)
pins: 1, 2

## CMP-1836-0A
designator MP??, comment Oznaka_PbFree  (value not drawn)  (no BOM)
Oznaka, Pb Free; Manufacturer: KONČAR; Value: Pb Free; PartStatus: Active; ManufacturerPartNumber: Pb Free; ValueNumeric: Pb Free; Component Type: Mechanical Parts
footprint Oznaka_PbFree (Oznaka, Pb Free)
text: Pb

## CMP-1895-0A
designator R??, comment value 4R7  (hidden comment: MELFR_4R7_0207_1%)
Resistor, MELF, 4R7, 1%, 0.4W, TK50, Vishay; ManufacturerPartNumber: MMB02070C4708FB200; BrDijela: E38624; ValueNumeric: 4.7; Voltage: 200V; DatasheetVersion: Revision: 09-Feb-16; Manufacturer: Vishay; ROHS: Yes; HelpURL: \\srv-perun\Repos\Comp\090_COTS\Components\Datasheets\Resistors\Vishay\melfprof.pdf; PackageType: MMB 0207; Tolerance: 1%; MountingType: SMD; Power: 0.4W; OperatingTemp: -55C to +155C; PartStatus: Active; Height: 2.2mm; Manufacturer Part Number: MMB02070C4708FB200; Component Type: Resistor
footprint RESMELF5822M (Resistor MELF, MMB0207, 5.8x2.2mm, Vishay)
pins: 1, 2